# EAGLE library part NE8FAH (library audio)
Ethercon NE8FAH Horizonal PCB mount RJ45 receptacle, A-Series cutout with latch lock, max. panel thickness 3 mm
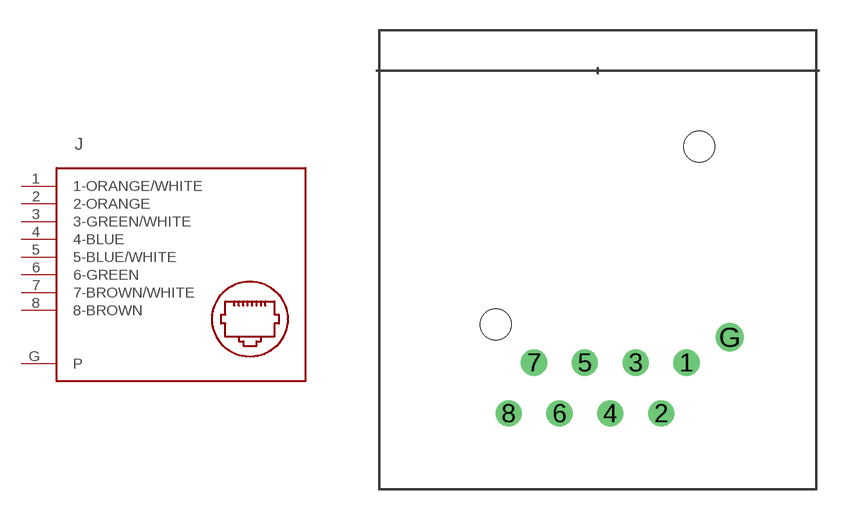
[diagram p1: symbol with the pads of NE8FAH; footprint NE8FAH]

Designator prefix J

## NE8FAH  [NE8FAH]
1  1-ORANGE/WHITE
2  2-ORANGE
3  3-GREEN/WHITE
4  4-BLUE
5  5-BLUE/WHITE
6  6-GREEN
7  7-BROWN/WHITE
8  8-BROWN
G  P

## Footprint NE8FAH (pad centres in mm)
drill 0.8 round: 1 0,0; 2 -1.27,-2.54; 3 -2.54,0; 4 -3.81,-2.54; 5 -5.08,0; 6 -6.35,-2.54; 7 -7.62,0; 8 -8.89,-2.54
drill 0.9 round: G 2.159,1.27
hole 1.55 at -9.525,1.905
hole 1.55 at 0.635,10.795